# Altium footprint library 2019-03-18_23-51-11.PcbLib: 1 footprints
Each footprint in its own frame and in the unit in brackets; x right, y up, seen from the top. Pads: shape width x height; smd on the part's side, far side on the other; paste and mask are expansions set on the pad; w line width, h text height; cw(c..) or ccw(c..) is an arc to the next point about the centre after c.
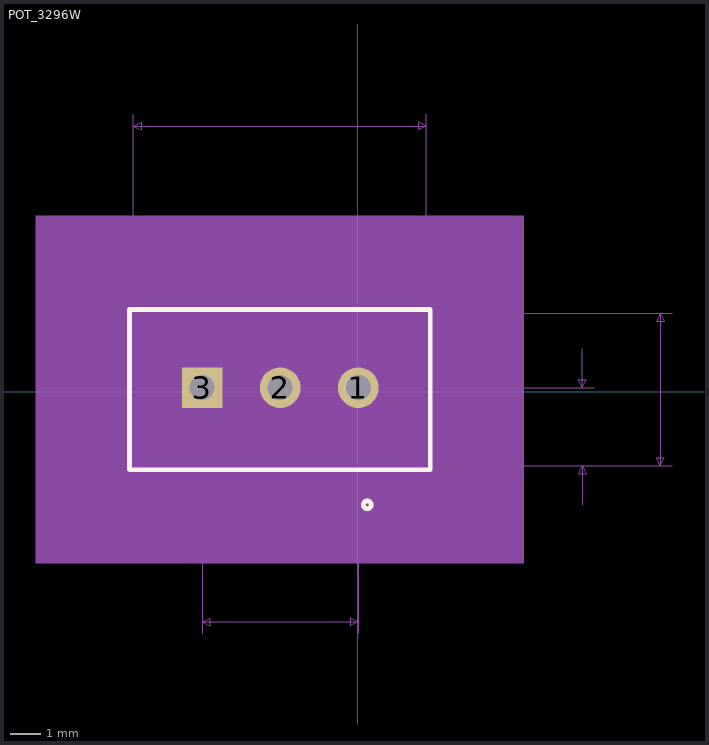
[diagram p0: the footprint, top view; thin cyan lines are the x and y axes]

## POT_3296W [mil]
pads (3):
  round 52 hole 32 mask+0: 1(1,5) 2(-99,5)
  rect 52x52 hole 32 mask+0: 3(-199,5)
Top Overlay:
  circle w6: c12.5,-145 r5
  lines w6: -292,-100 93,-100 93,105 -292,105 -292,-100
Mechanical 5:
  region: -412,225 213,225 213,-220 -412,-220
Mechanical 7:
  lines w1: -337,-195 -287,-195 ; -287,-210 -287,-105 ; -287,100 -287,355 ; -249,200 -199,200 ; -199,-310 -199,-31 ; -199,-210 -199,-31 ; -199,215 -199,-31 ; -149,-195 -199,-195 ; -99,-31 -99,215 ; -63,5 203,5 37,5 303,5 ; -49,200 -99,200 ; 1,-310 1,-31 ; 88,355 88,100 403,100 ; 188,-45 188,5 ; 188,55 188,5 ; 288,-145 288,-95 ; 288,55 288,5 ; 303,-95 88,-95 403,-95 ; -287,-195 -297,-190 -297,-200 -287,-195 ; -287,340 88,340 ; -287,340 -277,345 -277,335 -287,340 ; -199,-295 1,-295 ; -199,-295 -189,-290 -189,-300 -199,-295 ; -199,-195 -189,-190 -189,-200 -199,-195 ; -199,200 -209,205 -209,195 -199,200 ; -99,200 -89,205 -89,195 -99,200 ; 1,-295 -9,-290 -9,-300 1,-295 ; 88,340 78,345 78,335 88,340 ; 188,5 183,15 193,15 188,5 ; 188,5 183,-5 193,-5 188,5 ; 288,-95 283,-105 293,-105 288,-95 ; 288,5 283,15 293,15 288,5 ; 388,-95 388,100 ; 388,-95 383,-85 393,-85 388,-95 ; 388,100 383,90 393,90 388,100
  text "Pin 1 Padstyle: s132h81" at -387,-445 h50
  text "Default Padstyle: c132h81" at -412,-520 h50
  text "Alt 1 Padstyle: b152_229h76" at -437,-595 h50
  text "Alt 2 Padstyle: b229_152h76" at -437,-670 h50
  text "0.088in/2.235mm" at -336.75,-240 h25
  text "0.1in/2.54mm" at -224,220 h25
  text "0.2in/5.08mm" at -174,-340 h25
  text "0.375in/9.525mm" at -193.25,360 h25
  text "0in/0mm" at 208,-10 h25
  text "0.1in/2.54mm" at 308,-56.25 h25
  text "0.195in/4.953mm" at 408,-10 h25
Mechanical 13:
  circle w0: c12.5,-75 r5
  circle w0: c-237,50 r40
  lines w1: -287,-95 88,-95 88,100 -287,100 -287,-95
Mechanical 15:
  region: 98,-105 -297,-105 -297,110 98,110
  lines w6: -297,-105 -297,110 98,110 98,-105 -297,-105
3D body: height 10, standoff 0, extent 0,0 10,10